# Altium integrated library LM555CN_NOPB.IntLib: 1 symbol
Pins are listed as number, name and electrical type; pins without a type are passive.

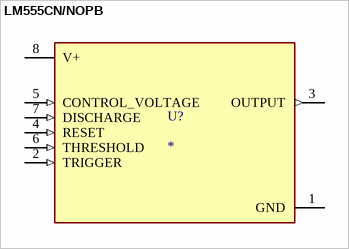
[diagram p0: symbol LM555CN/NOPB]

## LM555CN/NOPB
designator U?
MP: LM555CN/NOPB; Value: *; Availability: Unavailable; Package: None; Price: None
footprint DIP794W45P254L959H508Q8
pins: 1 GND (power), 2 TRIGGER (in), 3 OUTPUT (out), 4 RESET (in), 5 CONTROL_VOLTAGE (in), 6 THRESHOLD (in), 7 DISCHARGE (in), 8 V+ (power)